# EAGLE library part BQ51013A (library bqevm_additional_ti_ics)
According to: http://www.ti.com/product/bq51013a
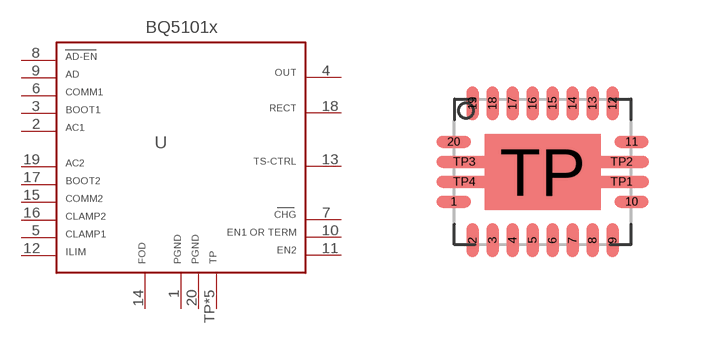
[diagram p2: symbol with the pads of RHL; footprint RHL]

Designator prefix U

## BQ51013ARHL20  [RHL]
1  1
2  2
3  3
4  4
5  5
6  6
7  7
8  8
9  9
10  10
11  11
12  12
13  13
14  14
15  15
16  16
17  17
18  18
19  19
20  20
TP  TP
TP1  TP
TP2  TP
TP3  TP
TP4  TP

## Footprint RHL (pad centres in mm)
According to: http://www.ti.com/litv/pdf/mpqf155i
smd 0.85 x 0.3: 1 -2.223,-0.75; 10 2.223,-0.75; 11 2.223,0.75; 20 -2.223,0.75
smd 0.3 x 0.85: 2 -1.75,-1.715; 3 -1.25,-1.715; 4 -0.75,-1.715; 5 -0.25,-1.715; 6 0.25,-1.715; 7 0.75,-1.715; 8 1.25,-1.715; 9 1.75,-1.715; 12 1.75,1.715; 13 1.25,1.715; 14 0.75,1.715; 15 0.25,1.715; 16 -0.25,1.715; 17 -0.75,1.715; 18 -1.25,1.715; 19 -1.75,1.715
smd 2.9 x 1.9: TP 0,0
smd 1.37 x 0.3: TP1 1.969,-0.25; TP2 1.969,0.25; TP3 -1.969,0.25; TP4 -1.969,-0.25